# Altium footprint library USF340-20P0K-0P01-5PPM.PcbLib: 1 footprints
Each footprint in its own frame and in the unit in brackets; x right, y up, seen from the top. Pads: shape width x height; smd on the part's side, far side on the other; paste and mask are expansions set on the pad; w line width, h text height; cw(c..) or ccw(c..) is an arc to the next point about the centre after c.
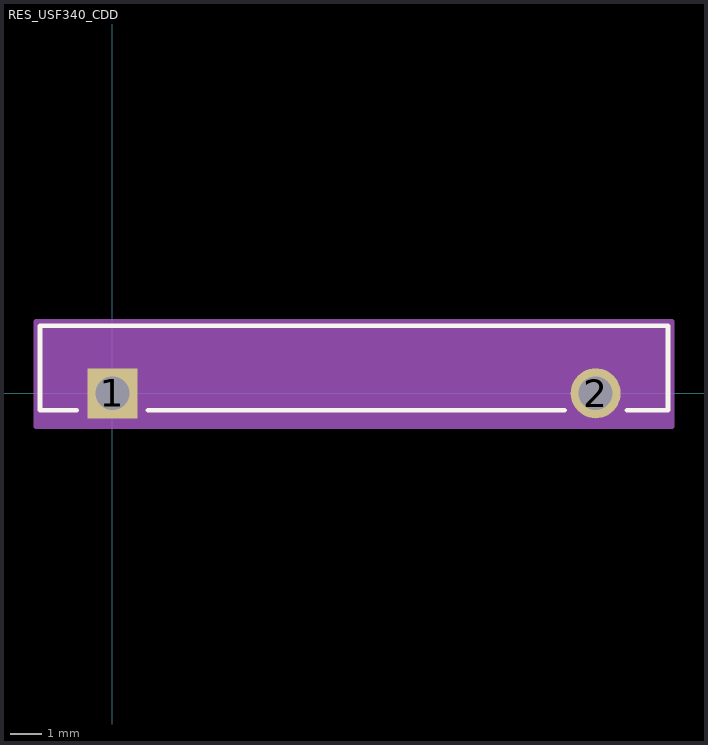
[diagram p0: the footprint, top view; thin cyan lines are the x and y axes]

## RES_USF340_CDD [mil]
pads (2):
  rect 62x62 hole 42 paste-31 mask+0: 1(0,0)
  round 62 hole 42 paste-31 mask+0: 2(600,0)
Top Overlay:
  lines w6: -44.1,-21 -90,-21 -90,84 690,84 690,-21 638.78,-21 ; 44.1,-21 561.22,-21
  text ".Designator" at 162.5,-25 h50
Mechanical 13:
  circle w1: c-65,0 r0
  lines w1: -85,-16 685,-16 685,79 -85,79 -85,-16
  text ".Designator" at 162.5,-25 h50
Mechanical 15:
  region: 695,89 -95,89 -95,-41 695,-41
  lines w6: -95,-41 -95,89 695,89 695,-41 -95,-41